# EAGLE library part DG406DJZ (library Intersil_By_element14_Batch_1)
CMOS Analog Multiplexers
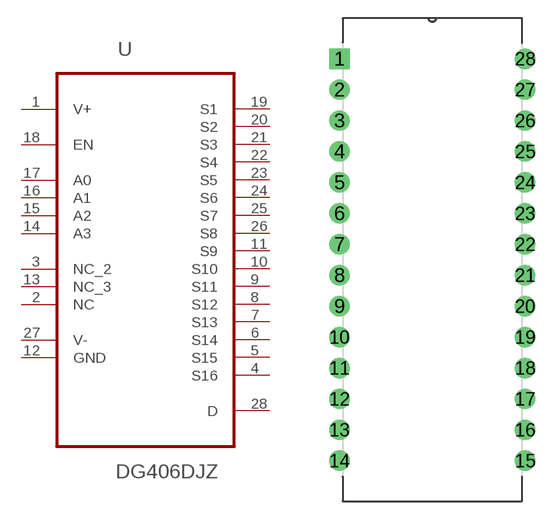
[diagram p28: symbol with the pads of DIP254P1524X635-28; footprint DIP254P1524X635-28]

Designator prefix U

## DG406DJZ (MPN: DG406DJZ; OC_FARNELL: 1561940; OC_NEWARK: 61J5524; PACKAGE: PCDIP-28; SUPPLIER: INTERSIL)  [DIP254P1524X635-28]
1  V+  pwr
2  NC  nc
3  NC_2  nc
4  S16  out
5  S15  out
6  S14  out
7  S13  out
8  S12  out
9  S11  out
10  S10  out
11  S9  out
12  GND  pas
13  NC_3  nc
14  A3  in
15  A2  in
16  A1  in
17  A0  in
18  EN  in
19  S1  out
20  S2  out
21  S3  out
22  S4  out
23  S5  out
24  S6  out
25  S7  out
26  S8  out
27  V-  pwr
28  D

## Footprint DIP254P1524X635-28 (pad centres in mm)
drill 1.118 square: 1 -15.24,33.02
drill 1.118: 2 -15.24,30.48; 3 -15.24,27.94; 4 -15.24,25.4; 5 -15.24,22.86; 6 -15.24,20.32; 7 -15.24,17.78; 8 -15.24,15.24; 9 -15.24,12.7; 10 -15.24,10.16; 11 -15.24,7.62; 12 -15.24,5.08; 13 -15.24,2.54; 14 -15.24,0; 15 0,0; 16 0,2.54; 17 0,5.08; 18 0,7.62; 19 0,10.16; 20 0,12.7; 21 0,15.24; 22 0,17.78; 23 0,20.32; 24 0,22.86; 25 0,25.4; 26 0,27.94; 27 0,30.48; 28 0,33.02